# Altium footprint library IDC2x5-Male.PcbLib: 1 footprints
Each footprint in its own frame and in the unit in brackets; x right, y up, seen from the top. Pads: shape width x height; smd on the part's side, far side on the other; paste and mask are expansions set on the pad; w line width, h text height; cw(c..) or ccw(c..) is an arc to the next point about the centre after c.
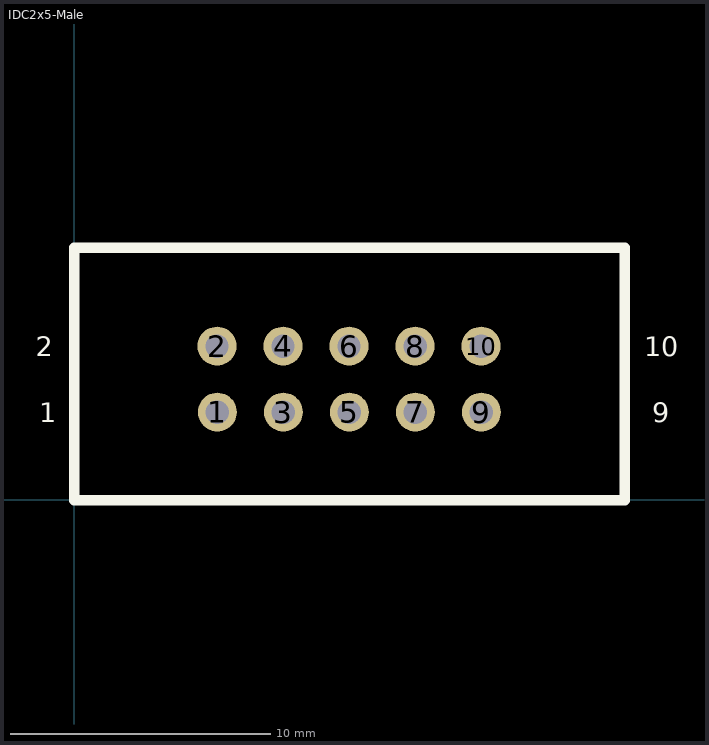
[diagram p0: the footprint, top view; thin cyan lines are the x and y axes]

## IDC2x5-Male [mm]
pads (10):
  round 1.5 hole 0.9: 1(5.499,3.378) 2(5.486,5.918) 3(8.039,3.378) 4(8.026,5.918) 5(10.579,3.378) 6(10.566,5.918) 7(13.119,3.378) 8(13.106,5.918) 9(15.659,3.378) 10(15.646,5.918)
Top Overlay:
  lines w0.4: -0.013,-0.013 21.171,-0.013 21.171,9.703 -0.013,9.703 -0.013,-0.013
  text "1" at -1.359,2.997 h0.76
  text "2" at -1.486,5.537 h0.76
  text "9" at 22.238,2.997 h0.76
  text "10" at 21.92,5.537 h0.76
3D body "User Library-IDC Socket Male 10pin Straight THT Goldplated 2_54mm.STEP": height 8.88, standoff -3.52, extent 0.432,0.394 20.732,9.244